# Altium footprint library SparkFun-DiscreteSemi.PCBLIB: 40 footprints (part 2 of 3)
Each footprint in its own frame and in the unit in brackets; x right, y up, seen from the top. Pads: shape width x height; smd on the part's side, far side on the other; paste and mask are expansions set on the pad; w line width, h text height; cw(c..) or ccw(c..) is an arc to the next point about the centre after c.
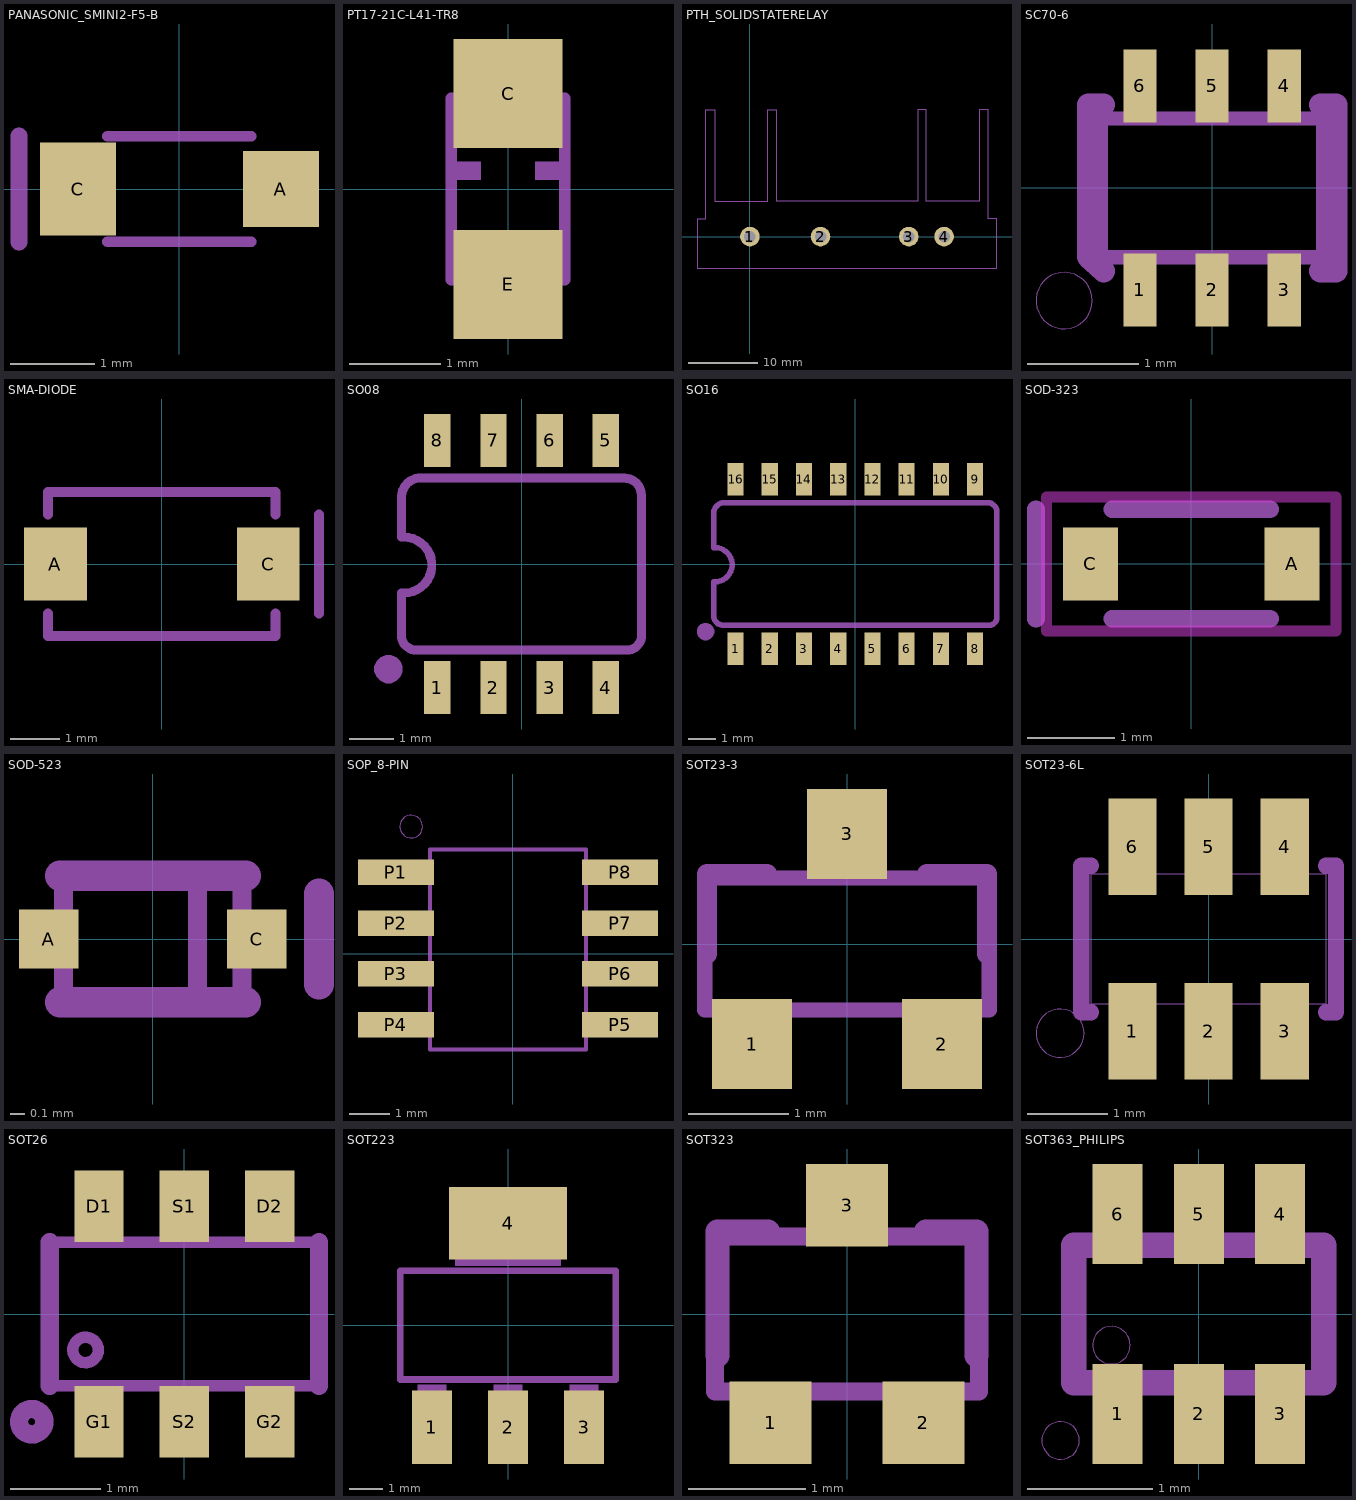
[diagram p1: the footprints below, top view; thin cyan lines are the x and y axes]

## PANASONIC_SMINI2-F5-B [mil]
pads (2):
  rect 35.43x35.43 smd: A(47.24,0)
  rect 35.43x43.31 smd: C(-47.24,0)
tPlace:
  lines w5: -33.46,-24.61 33.46,-24.61 ; -33.46,24.61 33.46,24.61
  lines w8: -74.69,-24.61 -74.69,24.61

## PT17-21C-L41-TR8 [mil]
pads (2):
  rect 47.24x47.24 smd: C(0,41.34) E(0,-41.34)
tDocu:
  region: -23.62,3.94 -23.62,11.81 -11.81,11.81 -11.81,3.94
  region: 11.81,3.94 11.81,11.81 23.62,11.81 23.62,3.94
  lines w5: -15.75,39.37 ccw(c0,39.37) 15.75,39.37 ; -13.78,-31.5 -24.61,-31.5 ; 13.78,-31.5 23.62,-31.5 ; -24.61,-31.5 -24.61,-39.37 -15.75,-39.37 ; -24.61,-31.5 -24.61,39.37 24.61,39.37 24.61,-39.37 15.75,-39.37 ; -15.75,-39.37 15.75,-39.37 ; -15.75,-39.37 cw(c0,-39.37) 15.75,-39.37
tPlace:
  region: 11.81,3.94 11.81,11.81 23.62,11.81 23.62,3.94
  region: -23.62,3.94 -23.62,11.81 -11.81,11.81 -11.81,3.94

## PTH_SOLIDSTATERELAY [mil]
pads (4):
  round 111 hole 65: 1(0,0) 2(400,0) 3(900,0) 4(1100,0)
tDocu:
  lines w5: -300,-180 -300,100 -250,100 -250,720 -200,720 -200,200 100,200 100,720 150,720 150,200 950,200 950,720 1000,720 1000,200 1300,200 1300,720 1350,720 1350,100 1400,100 1400,-180 -300,-180
tPlace:
  lines w5: -300,-180 -300,100 -250,100 -250,720 -200,720 -200,200 100,200 100,720 150,720 150,200 950,200 950,720 1000,720 1000,200 1300,200 1300,720 1350,720 1350,100 1400,100 1400,-180 -300,-180

## SC70-6 [mm]
pads (6):
  rect 0.3x0.66 smd: 1(-0.65,-0.92) 2(0,-0.92) 3(0.65,-0.92) 4(0.65,0.92) 5(0,0.92) 6(-0.65,0.92)
tDocu:
  region: -0.102,0.686 -0.102,1.041 0.102,1.041 0.102,0.686
  region: -0.102,-1.041 -0.102,-0.686 0.102,-0.686 0.102,-1.041
  region: 0.548,0.686 0.548,1.041 0.752,1.041 0.752,0.686
  region: -0.752,0.686 -0.752,1.041 -0.548,1.041 -0.548,0.686
  region: -0.752,-1.041 -0.752,-0.686 -0.548,-0.686 -0.548,-1.041
  region: 0.548,-1.041 0.548,-0.686 0.752,-0.686 0.752,-1.041
  lines w0.127: -1,-0.625 -1,0.625 1,0.625 1,-0.625 -1,-0.625
tPlace:
  circle w0: c-1.333,-1.016 r0.254
  lines w0.203: -0.978,-0.749 -1.118,-0.622 -1.118,0.749 -0.978,0.749 ; 0.978,-0.749 1.118,-0.749 1.118,0.749 0.978,0.749

## SMA-DIODE [mil]
pads (2):
  rect 50x57.87 smd: A(-84.65,0) C(84.65,0)
tPlace:
  lines w8: -90.55,-39.37 -90.55,-57.09 90.55,-57.09 90.55,-39.37 ; -90.55,39.37 -90.55,57.09 90.55,57.09 90.55,39.37 ; 125,-39.37 125,39.37

## SO08 [mil]
pads (8):
  rect 23.62x47.24 smd: 1(-75,-110.24) 2(-25,-110.24) 3(25,-110.24) 4(75,-110.24) 5(75,110.24) 6(25,110.24) 7(-25,110.24) 8(-75,110.24)
tDocu:
  region: -85,-130 -85,-89.5 -65,-89.5 -65,-130
  region: -35,-130 -35,-89.5 -15,-89.5 -15,-130
  region: 15,-130 15,-89.5 35,-89.5 35,-130
  region: 65,-130 65,-89.5 85,-89.5 85,-130
  region: -35,90 -35,130 -15,130 -15,90
  region: 15,90 15,130 35,130 35,90
  region: 65,90 65,130 85,130 85,90
  region: -85,90 -85,130 -65,130 -65,90
tPlace:
  region: -106.25,-93.75 -106.25,-91.26 -108.15,-86.67 -111.67,-83.15 -116.26,-81.25 -118.75,-81.25 -121.24,-81.25 -125.83,-83.15 -129.35,-86.67 -131.25,-91.26 -131.25,-93.75 -131.25,-96.24 -129.35,-100.83 -125.83,-104.35 -121.24,-106.25 -118.75,-106.25 -116.26,-106.25 -111.67,-104.35 -108.15,-100.83 -106.25,-96.24 -106.25,-93.75
  lines w8: -107,-26 -107,-65.56 ccw(c-93.97,-63.6) -92,-76.63 95.94,-76.63 ccw(c93.97,-63.6) 107,-61.63 107,61.63 ccw(c92,61.63) 92,76.63 -92,76.63 ccw(c-90.03,59.66) -107,57.69 ; -107,24 -107,57.19 ; -105,-26 ccw(c-105,-1) -105,24

## SO16 [mil]
pads (16):
  rect 23.62x47.24 smd: 1(-175,-124.02) 2(-125,-124.02) 3(-75,-124.02) 4(-25,-124.02) 5(25,-124.02) 6(75,-124.02) 7(125,-124.02) 8(175,-124.02) 9(175,124.02) 10(125,124.02) 11(75,124.02) 12(25,124.02) 13(-25,124.02) 14(-75,124.02) 15(-125,124.02) 16(-175,124.02)
tDocu:
  region: -185,-145 -185,-104.5 -165,-104.5 -165,-145
  region: -135,-145 -135,-104.5 -115,-104.5 -115,-145
  region: -85,-145 -85,-104.5 -65,-104.5 -65,-145
  region: -35,-145 -35,-104.5 -15,-104.5 -15,-145
  region: -135,105 -135,145 -115,145 -115,105
  region: -85,105 -85,145 -65,145 -65,105
  region: -35,105 -35,145 -15,145 -15,105
  region: -185,105 -185,145 -165,145 -165,105
  region: 15,-145 15,-104.5 35,-104.5 35,-145
  region: 65,-145 65,-104.5 85,-104.5 85,-145
  region: 115,-145 115,-104.5 135,-104.5 135,-145
  region: 165,-145 165,-104.5 185,-104.5 185,-145
  region: 65,105 65,145 85,145 85,105
  region: 115,105 115,145 135,145 135,105
  region: 165,105 165,145 185,145 185,105
  region: 15,105 15,145 35,145 35,105
tPlace:
  region: -206.25,-98.75 -206.25,-96.26 -208.15,-91.67 -211.67,-88.15 -216.26,-86.25 -218.75,-86.25 -221.24,-86.25 -225.83,-88.15 -229.35,-91.67 -231.25,-96.26 -231.25,-98.75 -231.25,-101.24 -229.35,-105.83 -225.83,-109.35 -221.24,-111.25 -218.75,-111.25 -216.26,-111.25 -211.67,-109.35 -208.15,-105.83 -206.25,-101.24 -206.25,-98.75
  lines w8: -207,-26 -207,-75.56 ccw(c-192.5,-75.07) -192,-89.57 195.94,-89.57 ccw(c195,-77.57) 207,-76.63 207,76.63 ccw(c193.03,75.6) 192,89.57 -192,89.57 ccw(c-191.06,73.63) -207,72.69 ; -207,24 -207,72.19 ; -205,-26 ccw(c-205,-1) -205,24

## SOD-323 [mil]
pads (2):
  rect 24.8x32.68 smd: A(45.28,0) C(-45.28,0)
Top keep-out:
  lines w5: -65,-30 65,-30 65,30 -65,30 -65,-30
tPlace:
  lines w8: -69.69,-24.61 -69.69,24.61 ; -35.43,-24.61 35.43,-24.61 ; -35.43,24.61 35.43,24.61

## SOD-523 [mil]
pads (2):
  rect 15.75x15.75 smd: A(-27.56,0) C(27.56,0)
tDocu:
  lines w5: -23.62,-3.94 -23.62,3.94 ; -23.62,-3.94 -23.62,-15.75 11.81,-15.75 ; -23.62,-3.94 -31.5,-3.94 -31.5,3.94 -23.62,3.94 ; -23.62,3.94 -23.62,15.75 11.81,15.75 ; 11.81,-15.75 23.62,-15.75 23.62,-3.94 ; 11.81,-15.75 11.81,15.75 ; 11.81,15.75 23.62,15.75 23.62,3.94 ; 23.62,-3.94 23.62,3.94 ; 23.62,-3.94 31.5,-3.94 31.5,3.94 23.62,3.94
tPlace:
  lines w8: -24.61,-16.73 24.61,-16.73 ; -24.61,16.73 24.61,16.73 ; 44,-12 44,12

## SOP_8-PIN [mil]
pads (8):
  rect 74.8x25.2 smd: P1(-115,80) P2(-115,30) P3(-115,-20) P4(-115,-70) P5(105.47,-70) P6(105.47,-20) P7(105.47,30) P8(105.47,80)
tDocu:
  lines w3.94: -81.61,-94.49 71.87,-94.49 71.87,102.36 -81.61,102.36 -81.61,-94.49
tPlace:
  circle w0: c-100,125 r11.18

## SOT23-3 [mil]
pads (3):
  rect 31.5x35.43 smd: 1(-37.4,-39.37) 2(37.4,-39.37) 3(0,43.31)
tDocu:
  lines w6: -56,-26 56,-26 56,26 -56,26 -56,-26
tPlace:
  lines w8: -55.12,-3.94 -55.12,27.56 -31.5,27.56 ; 31.5,27.56 55.12,27.56 55.12,-3.94

## SOT23-6L [mil]
pads (6):
  rect 23.62x47.24 smd: 1(-37.4,-45.28) 2(0,-45.28) 3(37.4,-45.28) 4(37.4,45.28) 5(0,45.28) 6(-37.4,45.28)
tDocu:
  region: 29.04,41.34 29.04,55.12 45.77,55.12 45.77,41.34
  region: -8.37,41.34 -8.37,55.12 8.37,55.12 8.37,41.34
  region: -45.77,41.34 -45.77,55.12 -29.04,55.12 -29.04,41.34
  region: 45.77,-41.34 45.77,-55.12 29.04,-55.12 29.04,-41.34
  region: 8.37,-41.34 8.37,-55.12 -8.37,-55.12 -8.37,-41.34
  region: -29.04,-41.34 -29.04,-55.12 -45.77,-55.12 -45.77,-41.34
  lines w0.1: -57.58,-31.99 -57.58,31.99 57.58,31.99 57.58,-31.99 -57.58,-31.99
tPlace:
  circle w0: c-72.87,-46.24 r11.81
  lines w8: -57.66,-35.93 -62.52,-35.93 -62.52,35.93 -57.66,35.93 ; 57.66,-35.93 62.52,-35.93 62.52,35.93 57.66,35.93

## SOT26 [mil]
pads (6):
  rect 21.65x31.5 smd: D1(-37.4,47.24) D2(37.4,47.24) G1(-37.4,-47.24) G2(37.4,-47.24) S1(0,47.24) S2(0,-47.24)
tDocu:
  circle w5: c-43.31,-15.75 r5.57
  lines w5: -59.06,-31.5 -59.06,31.5 59.06,31.5 59.06,-31.5 -59.06,-31.5
tPlace:
  circle w8: c-66.93,-47.24 r5.57
  lines w8: -59.06,-31.5 -59.06,31.5 ; 59.06,-31.5 59.06,31.5

## SOT223 [mil]
pads (4):
  rect 48x88 smd: 1(-91,-122) 2(0,-122) 3(91,-122)
  rect 141.73x86.61 smd: 4(0,122.01)
tDocu:
  region: -63,71 -63,144 63,144 63,71
  region: -17,-144 -17,-71 17,-71 17,-144
  region: -108,-144 -108,-71 -74,-71 -74,-144
  region: 74,-144 74,-71 108,-71 108,-144
  region: -63,71 -63,144 63,144 63,71
  region: -17,-144 -17,-71 17,-71 17,-144
  region: -108,-144 -108,-71 -74,-71 -74,-144
  region: 74,-144 74,-71 108,-71 108,-144
tPlace:
  lines w8: -129,-65 129,-65 129,65 -129,65 -129,-65

## SOT323 [mm]
pads (3):
  rect 0.7x0.7 smd: 1(-0.65,-0.925) 2(0.65,-0.925) 3(0,0.925)
tDocu:
  lines w0.152: -1.122,-0.66 1.122,-0.66 1.122,0.66 -1.122,0.66 -1.122,-0.66
tPlace:
  lines w0.203: -1.1,-0.354 -1.1,0.7 -0.673,0.7 ; 0.673,0.7 1.1,0.7 1.1,-0.354

## SOT363_PHILIPS [mil]
pads (6):
  rect 15.75x31.5 smd: 1(-25.59,-31.5) 2(0,-31.5) 3(25.59,-31.5) 4(25.59,31.5) 5(0,31.5) 6(-25.59,31.5)
tDocu:
  region: -31.5,-43.31 -31.5,-23.62 -19.69,-23.62 -19.69,-43.31
  region: -5.91,-43.31 -5.91,-23.62 5.91,-23.62 5.91,-43.31
  region: 19.69,-43.31 19.69,-23.62 31.5,-23.62 31.5,-43.31
  region: 19.69,23.62 19.69,43.31 31.5,43.31 31.5,23.62
  region: -5.91,23.62 -5.91,43.31 5.91,43.31 5.91,23.62
  region: -31.5,23.62 -31.5,43.31 -19.69,43.31 -19.69,23.62
  lines w8: -39.37,-21.65 39.37,-21.65 ; -39.37,21.65 39.37,21.65
tPlace:
  circle w0: c-27.56,-9.84 r5.91
  circle w0: c-43.56,-39.84 r5.91
  lines w8: -39.37,-21.65 -39.37,21.65 ; 39.37,-21.65 39.37,21.65